# EAGLE library part TCAL9539RTWRQ1 (library TCAL9539RTWRQ1)
Interface - I/O Expanders Automotive 16-bit low voltage IC/SMBus I/O expander w/interrupt, reset and agile I/O configuration 24-WQFN -40 to 125 Source: Datasheet <https://www.ti.com/lit/ds/symlink/tcal9539-q1.pdf?HQS=dis-mous-null-mousermode-dsf-pf-null-wwe&ts=1700652795434&ref_url=https%3A%2F%2Fwww.mouser.co.il%2F>
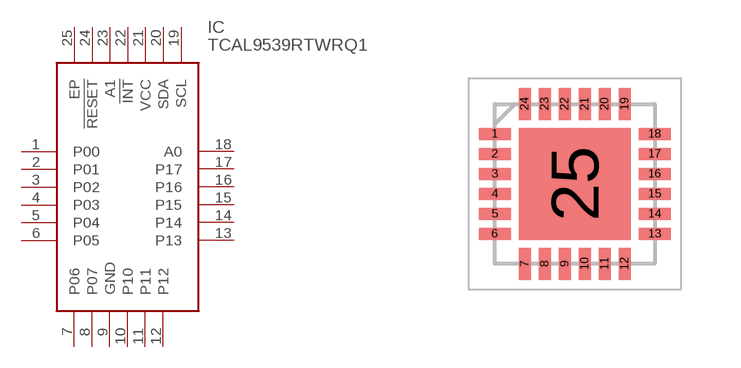
[diagram p0: symbol with the pads of QFN50P400X400X80-25N; footprint QFN50P400X400X80-25N]

Designator prefix IC

## TCAL9539RTWRQ1 (Description: Interface - I/O Expanders Automotive 16-bit low voltage IC/SMBus I/O expander w/interrupt, reset and agile I/O configuration 24-WQFN -40 to 125; Height: 0.8mm; Manufacturer_Name: Texas Instruments; Manufacturer_Part_Number: TCAL9539RTWRQ1; Mouser_Part_Number: 595-TCAL9539RTWRQ1; Mouser_Price-Stock: https://www.mouser.co.uk/ProductDetail/Texas-Instruments/TCAL9539RTWRQ1?qs=HoCaDK9Nz5cqBCs4xXWfwA%3D%3D)  [QFN50P400X400X80-25N]
1  P00
2  P01
3  P02
4  P03
5  P04
6  P05
7  P06
8  P07
9  GND
10  P10
11  P11
12  P12
13  P13
14  P14
15  P15
16  P16
17  P17
18  A0
19  SCL
20  SDA
21  VCC
22  !INT
23  A1
24  !RESET
25  EP

## Footprint QFN50P400X400X80-25N (pad centres in mm)
TCAL9539RTWRQ1*
smd 0.8 x 0.3: 1 -2,1.25; 2 -2,0.75; 3 -2,0.25; 4 -2,-0.25; 5 -2,-0.75; 6 -2,-1.25; 13 2,-1.25; 14 2,-0.75; 15 2,-0.25; 16 2,0.25; 17 2,0.75; 18 2,1.25
smd 0.3 x 0.8: 7 -1.25,-2; 8 -0.75,-2; 9 -0.25,-2; 10 0.25,-2; 11 0.75,-2; 12 1.25,-2; 19 1.25,2; 20 0.75,2; 21 0.25,2; 22 -0.25,2; 23 -0.75,2; 24 -1.25,2
smd 2.8 x 2.8: 25 0,0